# Altium footprint library TO-252-5.PcbLib: 1 footprints
Each footprint in its own frame and in the unit in brackets; x right, y up, seen from the top. Pads: shape width x height; smd on the part's side, far side on the other; paste and mask are expansions set on the pad; w line width, h text height; cw(c..) or ccw(c..) is an arc to the next point about the centre after c.
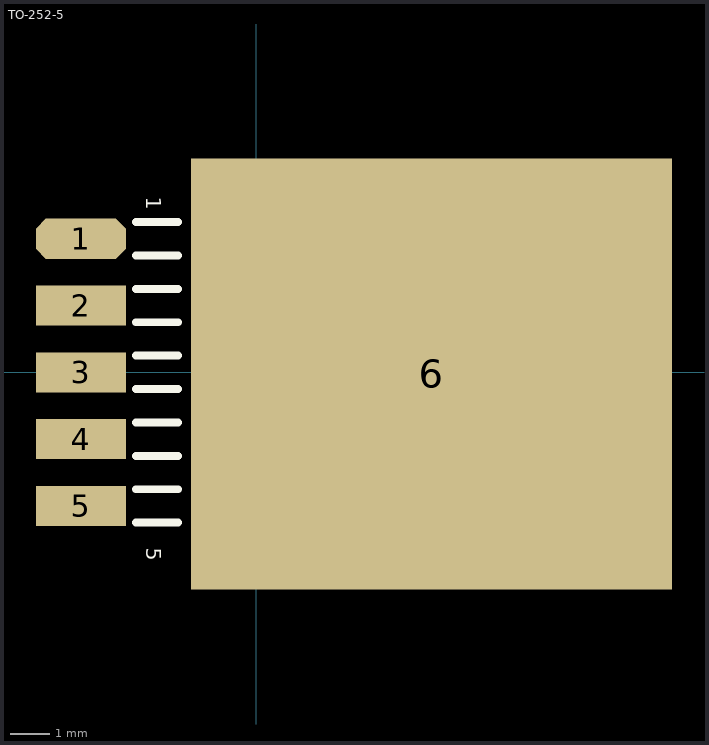
[diagram p0: the footprint, top view; thin cyan lines are the x and y axes]

## TO-252-5 [mil]
pads (6):
  oct 90x40 smd: 1(-175,133.33)
  rect 90x40 smd: 2(-175,66.67) 3(-175,0) 4(-175,-66.67) 5(-175,-133.33)
  rect 480x430 smd: 6(175,-1.67)
Top Overlay:
  lines w7.87: -120,-150 -78,-150 ; -120,-116.67 -78,-116.67 ; -120,-83.33 -78,-83.33 ; -120,-50 -78,-50 ; -120,-16.67 -78,-16.67 ; -120,16.67 -78,16.67 ; -120,50 -78,50 ; -120,83.33 -78,83.33 ; -120,116.67 -78,116.67 ; -120,150 -78,150
  text "1" at -110,175 h15
  text "5" at -110,-175 h15
Mechanical 13:
  lines w3.94: 290,-210 360,-210 360,210 290,210 ; 290,-210 -50,-210 -50,210 290,210 ; 290,-210 290,210
  lines w7.87: -50,-208.33 291.67,-208.33 ; -50,-208.33 -50,208.33 ; -50,-208.33 -33.33,-191.67 ; -50,208.33 291.67,208.33 ; -50,208.33 -33.33,191.67 ; -33.33,-191.67 275,-191.67 ; -33.33,-191.67 -33.33,191.67 ; -33.33,191.67 275,191.67 ; 275,-191.67 275,191.67 ; 275,-191.67 291.67,-208.33 ; 275,191.67 291.67,208.33 ; 291.67,-208.33 341.67,-208.33 358.33,-150 358.33,150 341.67,208.33 291.67,208.33 ; 291.67,-208.33 291.67,208.33
3D body: height 51.18, standoff 0, extent 290.02,-209.98 359.98,209.98
3D body: height 173.23, standoff 0, extent -49.98,-209.98 289.98,209.98